# Altium footprint library PCB Microchip.PcbLib: 2 footprints
Each footprint in its own frame and in the unit in brackets; x right, y up, seen from the top. Pads: shape width x height; smd on the part's side, far side on the other; paste and mask are expansions set on the pad; w line width, h text height; cw(c..) or ccw(c..) is an arc to the next point about the centre after c.
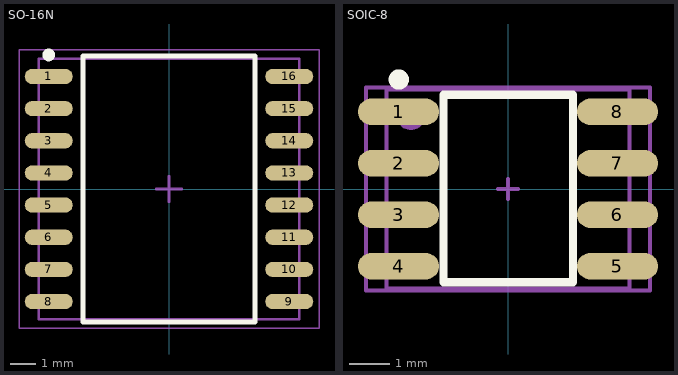
[diagram p0: the footprints below, top view; thin cyan lines are the x and y axes]

## SO-16N [mm] "SO, 16-Leads, Body 10,30x7,49mm, Pitch 1,27mm, IPC Medium Density"
height 2.37
pads (16):
  oval 1.9x0.6 smd: 1(-4.75,4.445) 2(-4.75,3.175) 3(-4.75,1.905) 4(-4.75,0.635) 5(-4.75,-0.635) 6(-4.75,-1.905) 7(-4.75,-3.175) 8(-4.75,-4.445) 9(4.75,-4.445) 10(4.75,-3.175) 11(4.75,-1.905) 12(4.75,-0.635) 13(4.75,0.635) 14(4.75,1.905) 15(4.75,3.175) 16(4.75,4.445)
Top Overlay:
  circle w0.25: c-4.75,5.295 r0.125
  lines w0.2: -3.4,-5.25 3.4,-5.25 3.4,5.25 -3.4,5.25 -3.4,-5.25
Top Assy:
  lines w0.1: -5.15,-5.15 -5.15,5.15 5.15,5.15 5.15,-5.15 -5.15,-5.15
Border:
  lines w0.05: -5.925,-5.5 5.925,-5.5 5.925,5.5 -5.925,5.5 -5.925,-5.5
  lines w0.1: -0.5,0 0.5,0 ; 0,-0.5 0,0.5
3D body "SO16 Wide 7.50mm.step": height 2.65, standoff 0, extent -5.15,-5.15 5.15,5.15

## SOIC-8 [mm]
pads (9):
  rrect100% 2x0.65 smd: 1(-2.7,1.905) 2(-2.7,0.635) 3(-2.7,-0.635) 4(-2.7,-1.905) 5(2.7,-1.905) 6(2.7,-0.635) 7(2.7,0.635) 8(2.7,1.905)
  round 0.7 on Mech1: ""(-2.395,1.8)
Top Overlay:
  circle w0.25: c-2.695,2.7 r0.125
  lines w0.2: -1.595,-2.3 -1.595,2.325 1.605,2.325 1.605,-2.3 -1.595,-2.3
Top Assy:
  lines w0.1: -3,-2.45 3,-2.45 3,2.45 -3,2.45 -3,-2.45
Border:
  lines w0.1: -0.25,0 0.25,0 ; 0,-0.25 0,0.25 ; -3.5,-2.5 3.5,-2.5 3.5,2.5 -3.5,2.5 -3.5,-2.5
3D body "User Library-SOIC-8-1.STEP": height 1.75, standoff 0, extent -3,-2.45 3,2.45